# Altium schematic symbol library edgy.SchLib: 9 symbols
Pins are listed as number, name and electrical type; pins without a type are passive.

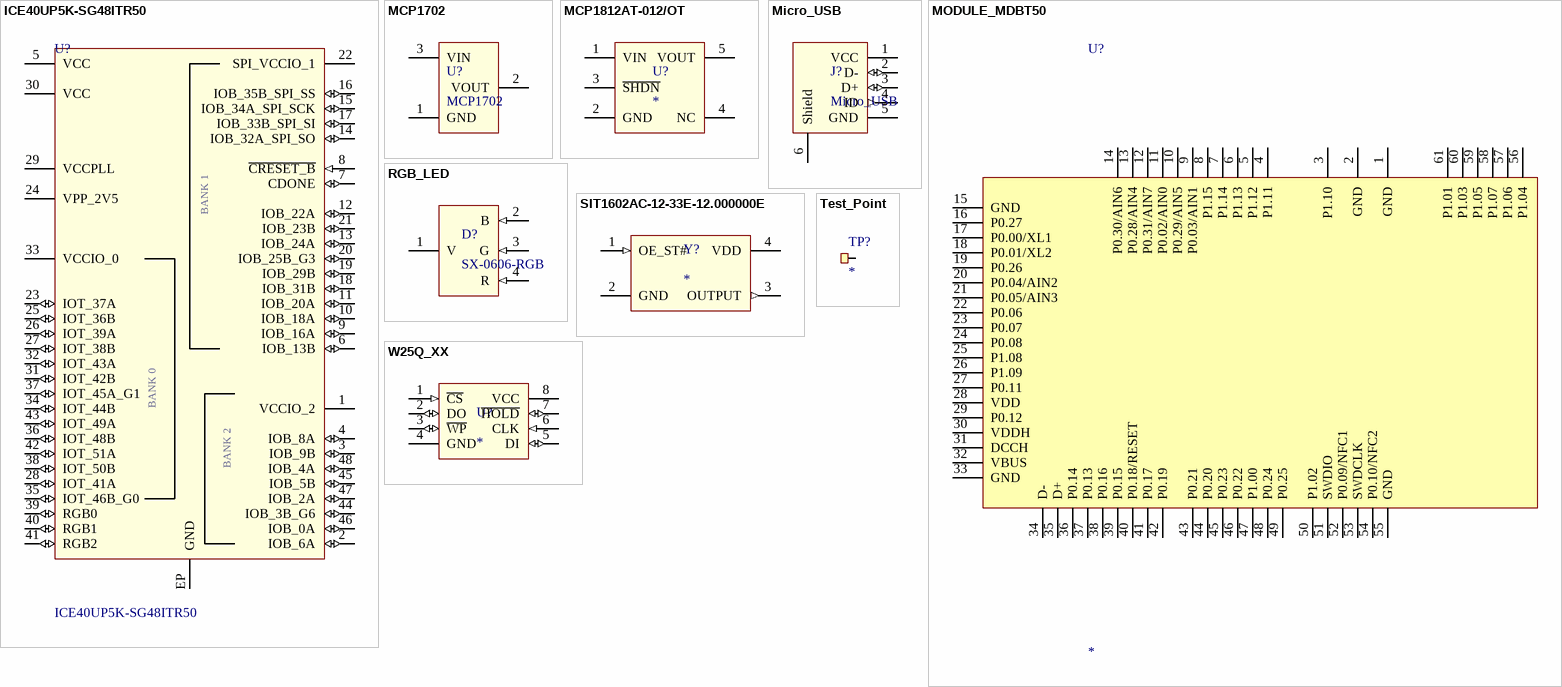
[diagram p0: symbols ICE40UP5K-SG48ITR50 to W25Q_XX]

## ICE40UP5K-SG48ITR50
designator U?
iCE40 UltraPlusÂ™ 5280 LUTs 39 I/O 1.2 V Surface Mount FOPGA - QFN-48; MF: Lattice Semiconductor; MP: ICE40UP5K-SG48ITR50; Digi-Key_Part_Number: 220-2145-1-ND; Package: QFN-48 Lattice Semiconductor; SnapEDA_Link: https://www.snapeda.com/parts/ICE40UP5K-SG48ITR50/Lattice%20Semiconductor%20Corporation/view-part/?ref=snap; Digi-Key_Purchase_URL: https://www.digikey.in/product-detail/en/lattice-semiconductor-corporation/ICE40UP5K-SG48ITR50/220-2145-1-ND/7688199?utm_source=snapeda&utm_medium=aggregator&utm_campaign=symbol; Value: *
footprint *QFN50P700X700X100-49N_ICE40UP5K-SG48ITR50(Primary)
pins: 1 VCCIO_2 (power), 2 IOB_6A (io), 3 IOB_9B (io), 4 IOB_8A (io), 5 VCC (power), 6 IOB_13B (io), 7 CDONE (io), 8 ~{CRESET_B} (in), 9 IOB_16A (io), 10 IOB_18A (io), 11 IOB_20A (io), 12 IOB_22A (io), 13 IOB_24A (io), 14 IOB_32A_SPI_SO (io), 15 IOB_34A_SPI_SCK (io), 16 IOB_35B_SPI_SS (io), 17 IOB_33B_SPI_SI (io), 18 IOB_31B (io), 19 IOB_29B (io), 20 IOB_25B_G3 (io), 21 IOB_23B (io), 22 SPI_VCCIO_1 (power), 23 IOT_37A (io), 24 VPP_2V5 (power), 25 IOT_36B (io), 26 IOT_39A (io), 27 IOT_38B (io), 28 IOT_41A (io), 29 VCCPLL (power), 30 VCC (power), 31 IOT_42B (io), 32 IOT_43A (io), 33 VCCIO_0 (power), 34 IOT_44B (io), 35 IOT_46B_G0 (io), 36 IOT_48B (io), 37 IOT_45A_G1 (io), 38 IOT_50B (io), 39 RGB0 (io), 40 RGB1 (io), 41 RGB2 (io), 42 IOT_51A (io), 43 IOT_49A (io), 44 IOB_3B_G6 (io), 45 IOB_5B (io), 46 IOB_0A (io), 47 IOB_2A (io), 48 IOB_4A (io), EP GND (power)
text: BANK 1; BANK 0; BANK 2

## MCP1702
designator U?
3.3 V Low Quasient Current LDO
pins: 1 GND (power), 2 VOUT (power) "3.3V", 3 VIN (power)

## MCP1812AT-012/OT
designator U?
Manufacturer: Microchip; Manufacturer Part Number: MCP1812AT-012/OT; Supplier 1: Mouser; Stock 1: 2995; Pricing 1: 1=0.4, 10=0.395, 50=0.329, 100=0.298, 1000=0.298, 10000=0.298 (USD); Supplier Part Number 1: 579-MCP1812AT-012/OT
pins: 1 VIN (power), 2 GND (power), 3 ~{SHDN}, 4 NC, 5 VOUT (power)

## Micro_USB
designator J?
Micro USB 2.0
footprint Micro_USB
pins: 1 VCC (power), 2 D- (io), 3 D+ (io), 4 ID (out), 5 GND (power), 6 Shield

## MODULE_MDBT50
designator U?
MDBT50
pins: 1 GND, 2 GND, 3 P1.10, 4 P1.11, 5 P1.12, 6 P1.13, 7 P1.14, 8 P1.15, 9 P0.03/AIN1, 10 P0.29/AIN5, 11 P0.02/AIN0, 12 P0.31/AIN7, 13 P0.28/AIN4, 14 P0.30/AIN6, 15 GND, 16 P0.27, 17 P0.00/XL1, 18 P0.01/XL2, 19 P0.26, 20 P0.04/AIN2, 21 P0.05/AIN3, 22 P0.06, 23 P0.07, 24 P0.08, 25 P1.08, 26 P1.09, 27 P0.11, 28 VDD, 29 P0.12, 30 VDDH, 31 DCCH, 32 VBUS, 33 GND, 34 D-, 35 D+, 36 P0.14, 37 P0.13, 38 P0.16, 39 P0.15, 40 P0.18/RESET, 41 P0.17, 42 P0.19, 43 P0.21, 44 P0.20, 45 P0.23, 46 P0.22, 47 P1.00, 48 P0.24, 49 P0.25, 50 P1.02, 51 SWDIO, 52 P0.09/NFC1, 53 SWDCLK, 54 P0.10/NFC2, 55 GND, 56 P1.04, 57 P1.06, 58 P1.07, 59 P1.05, 60 P1.03, 61 P1.01

## RGB_LED
designator D?, comment SX-0606-RGB
SMD LED-0603RGB / 0606/1615 RGB-Colorful / Common Anode / SIZE:1.6*1.6*0.55MM
pins: 1 V, 2 B (in), 3 G (in), 4 R (in)

## SIT1602AC-12-33E-12.000000E
designator Y?
Manufacturer: SiTime; Manufacturer Part Number: SIT1602AC-12-33E-12.000000E; Supplier 1: Digi-Key; Stock 1: 0; Pricing 1: 1000=0.63648 (USD); Mount: Surface Mount; Case/Package: SMD/SMT; Packaging: Tape and Reel; Length: 0.098inch; Height: 0.032inch; Width: 0.079inch; Supplier Part Number 1: SIT1602AC-12-33E-12.000000E-ND
pins: 1 OE_ST# (in), 2 GND (power), 3 OUTPUT (out), 4 VDD (power)

## Test_Point
designator TP?
pins: 1

## W25Q_XX
designator U?
pins: 1 ~{CS} (in), 2 DO (io), 3 ~{WP} (io), 4 GND (power), 5 DI (io), 6 CLK (in), 7 ~{HOLD} (io), 8 VCC (power)